# EAGLE library part BACKPLANE_CONNECTORS (library BLHeli_32 45A)
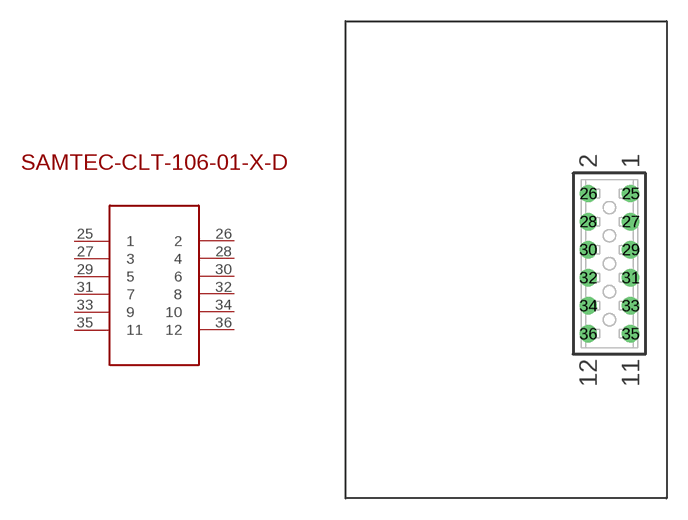
[diagram p4: symbol with the pads of BACKPLANE_CONNECTORS; footprint BACKPLANE_CONNECTORS]

Designator prefix -

## BACKPLANE_CONNECTORS  [BACKPLANE_CONNECTORS]
25  1  pas
26  2  pas
27  3  pas
28  4  pas
29  5  pas
30  6  pas
31  7  pas
32  8  pas
33  9  pas
34  10  pas
35  11  pas
36  12  pas

## Footprint BACKPLANE_CONNECTORS (pad centres in mm)
drill 0.64 pad 1.24: 25 1.511,4.975; 26 -1.511,4.975; 27 1.511,2.975; 28 -1.511,2.975; 29 1.511,0.975; 30 -1.511,0.975; 31 1.511,-1.025; 32 -1.511,-1.025; 33 1.511,-3.025; 34 -1.511,-3.025; 35 1.511,-5.025; 36 -1.511,-5.025